# EAGLE library part ADP3334 (library analog-devices)
LDO REGULATOR adjustable output LDO regulator
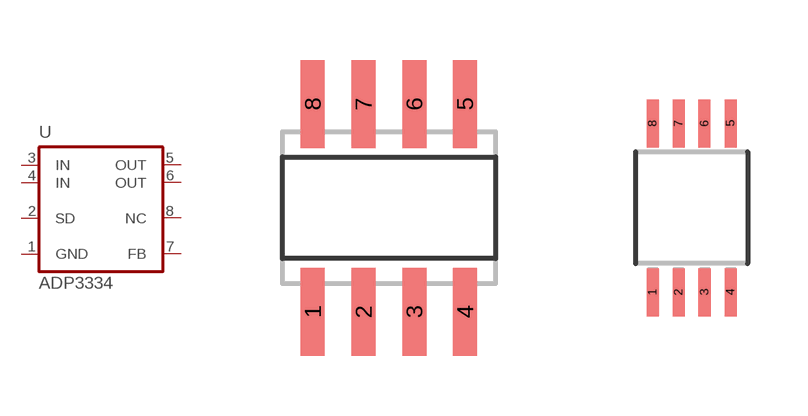
[diagram p42: symbol with the pads of SO08; footprints SO08, MSOP08]

Designator prefix U

## ADP3334AR (P1I: o)  [SO08]
1  GND  pwr
2  SD  in
3  IN  in
4  IN  in
5  OUT  pas
6  OUT  pas
7  FB  in
8  NC  pas

## ADP3334ARM (P1I: o)  [MSOP08]
1  OUT  pas
2  OUT  pas
3  FB  in
4  NC  pas
5  GND  pwr
6  SD  in
7  IN  in
8  IN  in

## Footprint SO08 (pad centres in mm)
SMALL OUTLINE INTEGRATED CIRCUIT body 3.9 mm/JEDEC MS-012AA
smd 0.6 x 2.2: 1 -1.905,-2.6; 2 -0.635,-2.6; 3 0.635,-2.6; 4 1.905,-2.6; 5 1.905,2.6; 6 0.635,2.6; 7 -0.635,2.6; 8 -1.905,2.6

## Footprint MSOP08 (pad centres in mm)
Mini Small Outline Package
smd 0.3 x 1.2: 1 -0.975,-2.113; 2 -0.325,-2.113; 3 0.325,-2.113; 4 0.975,-2.113; 5 0.975,2.112; 6 0.324,2.112; 7 -0.325,2.112; 8 -0.975,2.112